# Altium footprint library ALTAIR_PD_SOT.PcbLib: 10 footprints
Each footprint in its own frame and in the unit in brackets; x right, y up, seen from the top. Pads: shape width x height; smd on the part's side, far side on the other; paste and mask are expansions set on the pad; w line width, h text height; cw(c..) or ccw(c..) is an arc to the next point about the centre after c.
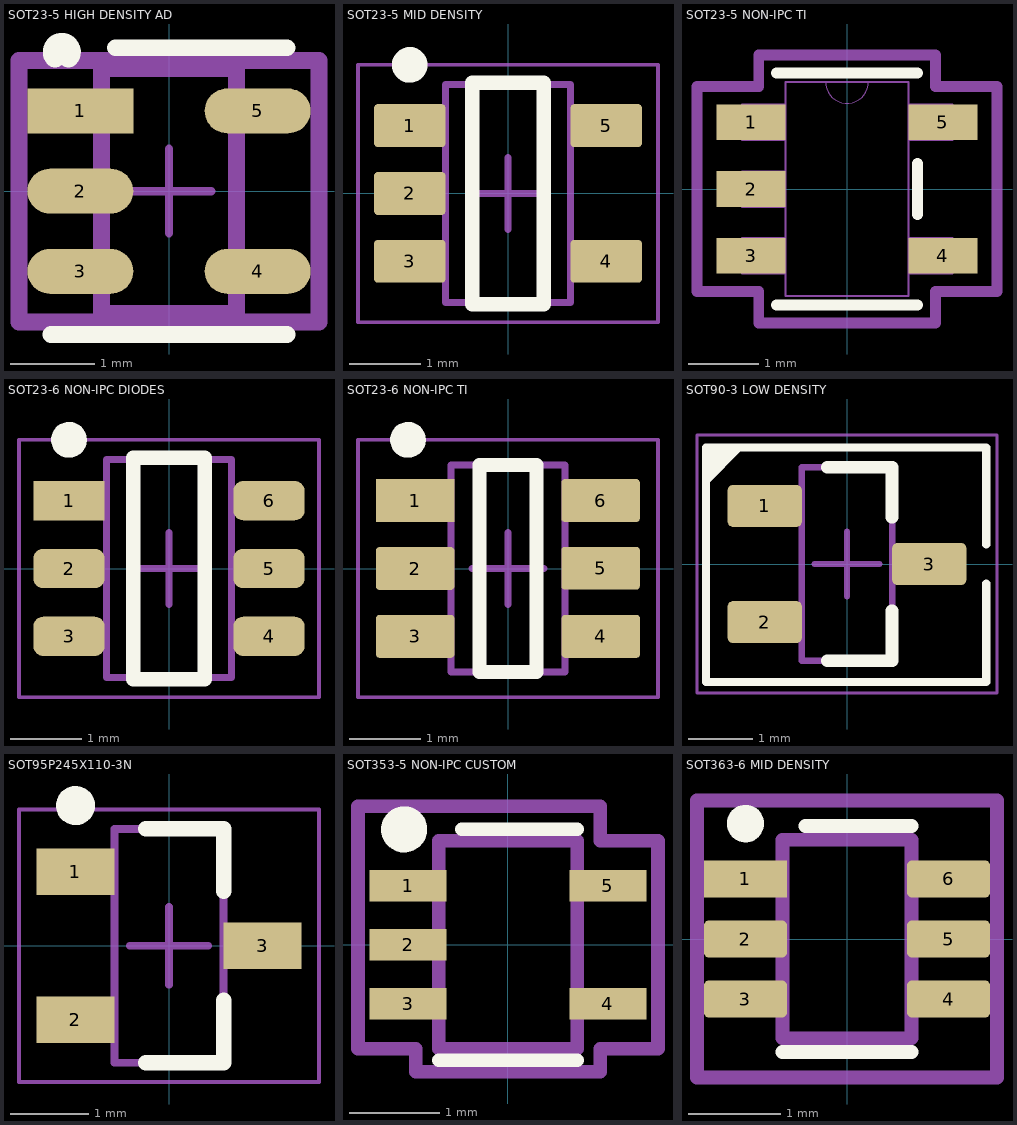
[diagram p0: the footprints below, top view; thin cyan lines are the x and y axes]

## PCBComponent_1 [mm]

## SOT23-5 HIGH DENSITY AD [mm] "FP-UJ-5-IPC_C"
pads (5):
  rect 1.254x0.532 smd paste+0 mask+0: 1(-1.05,0.95)
  rrect100% 1.254x0.532 smd paste+0 mask+0: 2(-1.05,0) 3(-1.05,-0.95) 4(1.05,-0.95) 5(1.05,0.95)
Top Overlay:
  lines w0.2: -1.4,-1.7 1.4,-1.7 ; -0.635,1.7 1.4,1.7
  lines w0.25: -1.35,1.591 cw(c-1.27,1.651) -1.19,1.591
Top Assembly:
  lines w0.2: -1.777,-1.55 1.777,-1.55 1.777,1.55 -1.777,1.55 -1.777,-1.55
  text ".Designator" at 0,0 h1
Top Courtyard:
  lines w0.2: -1.777,-1.55 1.777,-1.55 1.777,1.55 -1.777,1.55 -1.777,-1.55
Top 3D Body:
  lines w0.2: -0.8,-1.45 0.8,-1.45 0.8,1.45 -0.8,1.45 -0.8,-1.45
Top Component Center:
  lines w0.1: -0.5,0 0.5,0 ; 0,-0.5 0,0.5
3D body "IC_Analog_Devices_ADP7142AUJZ-R7_eec.STEP": height 1, standoff 0, extent -1.4,-1.45 1.4,1.45

## SOT23-5 MID DENSITY [mm] "SOT23, 5-Leads, Body 3.05x1.75mm, Pitch 0.95mm, IPC Medium Density"
height 1.45
pads (5):
  rrect17% 1x0.6 smd: 1(-1.375,0.95) 2(-1.375,0) 3(-1.375,-0.95) 4(1.375,-0.95) 5(1.375,0.95)
Top Overlay:
  circle w0.25: c-1.375,1.8 r0.125
  lines w0.2: -0.5,-1.55 -0.5,1.55 0.5,1.55 0.5,-1.55 -0.5,-1.55
Mechanical 1:
  text ".Designator" at -0.635,-0.254 h0.4
Mechanical 13:
  lines w0.1: -0.875,-1.525 -0.875,1.525 0.875,1.525 0.875,-1.525 -0.875,-1.525
Mechanical 15:
  lines w0.05: -2.1,-1.8 -2.1,1.8 2.1,1.8 2.1,-1.8 -2.1,-1.8
  lines w0.1: -0.5,0 0.5,0 ; 0,-0.5 0,0.5
3D body "DBV0005AaksMF05A.stp": height 1.08, standoff -0.01, extent -1.422,-1.461 1.422,1.46

## SOT23-5 NON-IPC TI [mil] "SOT-23-5_DBV_TEX"
pads (5):
  rect 38.5x20 smd paste+0 mask+0: 1(-53.75,37.4) 2(-53.75,0) 3(-53.75,-37.4) 4(53.75,-37.4) 5(53.75,37.4)
Top Overlay:
  lines w6: -39.5,-65 39.5,-65 ; -39.5,65 39.5,65 ; 39.5,-14.3 39.5,14.3
Mechanical 13:
  lines w0: -12,60 ccw(c0,60) 12,60
  lines w1: -59,-47.4 -34.5,-47.4 -34.5,-27.4 -59,-27.4 -59,-47.4 ; -59,-10 -34.5,-10 -34.5,10 -59,10 -59,-10 ; -59,27.4 -34.5,27.4 -34.5,47.4 -59,47.4 -59,27.4 ; -34.5,-60 -34.5,60 34.5,60 34.5,-60 -34.5,-60 ; 34.5,-47.4 59,-47.4 59,-27.4 34.5,-27.4 34.5,-47.4 ; 34.5,27.4 59,27.4 59,47.4 34.5,47.4 34.5,27.4
  text "*" at -37,9.4 h50
Mechanical 15:
  lines w6: -84,-57.4 -84,57.4 -49.5,57.4 -49.5,75 49.5,75 49.5,57.4 84,57.4 84,-57.4 49.5,-57.4 49.5,-75 -49.5,-75 -49.5,-57.4 -84,-57.4
3D body "SOT-23-5_DBV_TEX.step": height 43.11, standoff 0, extent -59.02,-60 59.02,60

## SOT23-6 NON-IPC DIODES [mm]
pads (6):
  rect 1x0.55 smd mask+0: 1(-1.4,0.95)
  rrect50% 1x0.55 smd mask+0: 2(-1.4,0) 3(-1.4,-0.95) 4(1.4,-0.95) 5(1.4,0) 6(1.4,0.95)
Top Overlay:
  circle w0.25: c-1.4,1.801 r0.125
  lines w0.2: -0.5,-1.55 -0.5,1.55 0.5,1.55 0.5,-1.55 -0.5,-1.55
Top Courtyard:
  lines w0.05: -2.1,-1.8 -2.1,1.8 2.1,1.8 2.1,-1.8 -2.1,-1.8
Top 3D Body:
  lines w0.1: -0.875,-1.525 -0.875,1.525 0.875,1.525 0.875,-1.525 -0.875,-1.525
Top Component Center:
  lines w0.1: -0.5,0 0.5,0 ; 0,-0.5 0,0.5
3D body "SOT26_DIO.step": height 1.4, standoff 0, extent -1.489,-1.537 1.509,1.561

## SOT23-6 NON-IPC TI [mm]
pads (6):
  rect 1.1x0.6 smd mask+0.03: 1(-1.3,0.95)
  rrect16% 1.1x0.6 smd mask+0.03: 2(-1.3,0) 3(-1.3,-0.95) 4(1.3,-0.95) 5(1.296,0.004) 6(1.296,0.951)
Top Overlay:
  circle w0.25: c-1.4,1.801 r0.125
  lines w0.2: -0.4,-1.45 0.4,-1.45 0.4,1.45 -0.4,1.45 -0.4,-1.45
Top Courtyard:
  lines w0.05: -2.1,-1.8 2.1,-1.8 2.1,1.8 -2.1,1.8 -2.1,-1.8
Top 3D Body:
  lines w0.1: -0.8,-1.45 0.8,-1.45 0.8,1.45 -0.8,1.45 -0.8,-1.45
Top Component Center:
  lines w0.1: -0.5,0 0.5,0 ; 0,-0.5 0,0.5
3D body "DBV0006A.stp": height 1.2, standoff 0, extent -1.4,-1.45 1.4,1.45

## SOT90-3 LOW DENSITY [mm] "SOT90P240X110-3M"
pads (3):
  rrect25% 1.15x0.65 smd: 1(-1.275,0.9) 2(-1.275,-0.9) 3(1.275,0)
Top Overlay:
  region: -2.184,1.216 -1.597,1.803 -2.184,1.803
  lines w0.127: 2.159,-0.303 2.159,-1.829 -2.184,-1.829 -2.184,1.803 2.159,1.803 2.159,0.303
  lines w0.2: -0.3,-1.5 0.7,-1.5 0.7,-0.725 ; -0.3,1.5 0.7,1.5 0.7,0.725
Top Assembly:
  lines w0.1: -0.7,-1.5 0.7,-1.5 0.7,1.5 -0.7,1.5 -0.7,-1.5
Top Courtyard:
  lines w0.05: -2.325,-2 2.325,-2 2.325,2 -2.325,2 -2.325,-2
  lines w0.1: -0.5,0 0.5,0 ; 0,-0.5 0,0.5
3D body "SOT90P240X110-3M.step": height 1.1, standoff 0, extent -1.25,-1.5 1.25,1.5

## SOT95P245X110-3N [mm] "SOT23, 3-Leads, Body 2.90x2.45mm, Pitch 0.95mm, IPC Medium Density"
height 1.1
pads (3):
  rect 1x0.6 smd: 1(-1.2,0.95) 2(-1.2,-0.95) 3(1.2,0)
Top Overlay:
  circle w0.25: c-1.2,1.8 r0.125
  lines w0.2: -0.3,-1.5 0.7,-1.5 0.7,-0.7 ; -0.3,1.5 0.7,1.5 0.7,0.7
Top Assembly:
  lines w0.1: -0.7,-1.5 0.7,-1.5 0.7,1.5 -0.7,1.5 -0.7,-1.5
Top Courtyard:
  lines w0.05: -1.925,-1.75 1.925,-1.75 1.925,1.75 -1.925,1.75 -1.925,-1.75
  lines w0.1: -0.5,0 0.5,0 ; 0,-0.5 0,0.5
3D body: height 1.1, standoff 0.05, extent -0.7,-1.5 0.7,1.5

## SOT353-5 NON-IPC CUSTOM [mm] "SC70 5-pin"
pads (5):
  rect 0.85x0.35 smd mask+0.05: 1(-1.1,0.65) 2(-1.1,0) 3(-1.1,-0.65) 4(1.1,-0.65) 5(1.1,0.65)
Top Overlay:
  circle w0.254: c-1.143,1.27 r0.127
  lines w0.15: -0.762,-1.27 0.762,-1.27 ; -0.508,1.27 0.762,1.27
Mechanical 1:
  lines w0.15: -0.762,-1.143 0.762,-1.143 0.762,1.143 -0.762,1.143 -0.762,-1.143
Top Courtyard:
  lines w0.15: -1.651,-1.143 -1.016,-1.143 -1.016,-1.397 1.016,-1.397 1.016,-1.143 1.651,-1.143 1.651,1.143 1.016,1.143 1.016,1.524 -1.651,1.524 -1.651,1.016 -1.651,-1.143
3D body "DCK0005A.stp": height 1, standoff 0, extent -1.05,-1 1.05,1

## SOT363-6 MID DENSITY [mm] "Technically non-IPC, adapted from TI datasheet for SOTx311 chips"
pads (6):
  rect 0.9x0.4 smd paste+0 mask+0: 1(-1.1,0.65)
  rrect25% 0.9x0.4 smd paste+0 mask+0: 2(-1.1,0) 3(-1.1,-0.65) 4(1.1,-0.65) 5(1.1,0) 6(1.1,0.65)
Top Overlay:
  circle w0.254: c-1.1,1.25 r0.075
  lines w0.15: -0.7,-1.225 0.7,-1.225 ; -0.45,1.225 0.7,1.225
Mechanical 1:
  lines w0.15: -0.7,-1.075 -0.7,1.075 0.7,1.075 0.7,-1.075 -0.7,-1.075
Top Courtyard:
  lines w0.15: -1.625,-1.5 -1.625,1.5 1.625,1.5 1.625,-1.5 -1.625,-1.5
3D body "DCK0006A.stp": height 1, standoff 0, extent -1.046,-0.996 1.054,1.004